# EAGLE library part INTERSIL_CA3046 (library Intersil - CA3046)
General Purpose NPN Transistor Array
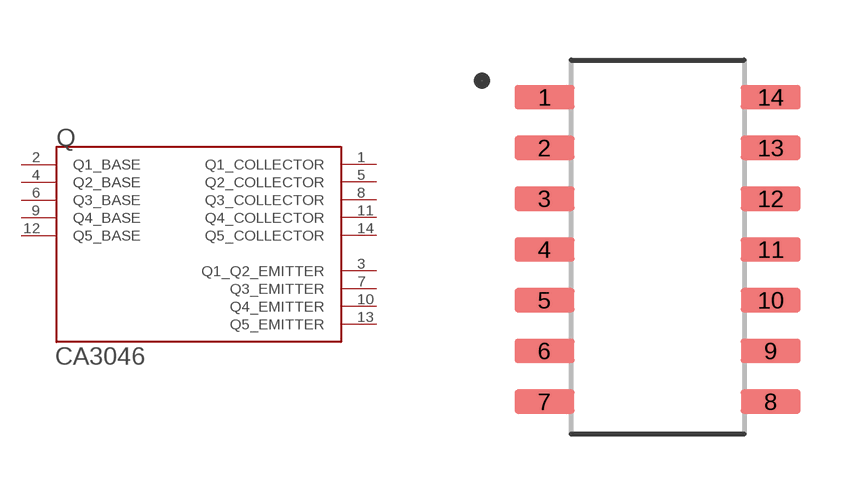
[diagram p0: symbol with the pads of INTERSIL_CA3046_0; footprint INTERSIL_CA3046_0]

Designator prefix Q

## INTERSIL_CA3046INTERSIL_CA3046_0_0 (CENTROID_NOT_SPECIFIED: No; DATASHEET: https://upverter.com/datasheet/b254393e30d4d2b983894b3f1b87c3991bb1cc66.pdf; IPC_LAND_PATTERN_NAME: DIP793W46P254L1917H533Q14; MECHANICAL_DETAILS: http://www.intersil.com/content/dam/Intersil/documents/icm7/icm7555-56.pdf; MF: Intersil; MPN: CA3046; PACKAGE: PDIP14; PREFIX: Q; TEMPERATURE_RANGE_HIGH: +125°C; TEMPERATURE_RANGE_LOW: -55°C)  [INTERSIL_CA3046_0]
1  Q1_COLLECTOR
2  Q1_BASE
3  Q1_Q2_EMITTER
4  Q2_BASE
5  Q2_COLLECTOR
6  Q3_BASE
7  Q3_EMITTER
8  Q3_COLLECTOR
9  Q4_BASE
10  Q4_EMITTER
11  Q4_COLLECTOR
12  Q5_BASE
13  Q5_EMITTER
14  Q5_COLLECTOR

## Footprint INTERSIL_CA3046_0 (pad centres in mm)
General Purpose NPN Transistor Array
smd 1.5 x 0.61: 1 -0.925,3.81; 2 -0.925,2.54; 3 -0.925,1.27; 4 -0.925,0; 5 -0.925,-1.27; 6 -0.925,-2.54; 7 -0.925,-3.81; 8 4.735,-3.81; 9 4.735,-2.54; 10 4.735,-1.27; 11 4.735,0; 12 4.735,1.27; 13 4.735,2.54; 14 4.735,3.81